# EAGLE library part AP3513E (library maxorig)
AP3513E - DC/DC buck converter Common and easy to implement fixed-frequency, PWM, synchronous buck converter. High efficiency even at low loads, built-in over current, temperature, and voltage protection. Be sure to connect exposed pad to to ground for electrical and thermal reasons. Technical specifications: Input voltage: 4.5-18V Fixed 500kHz switching frequency Integrated N-channel MOSFET Output current: 3A Programmable soft-start
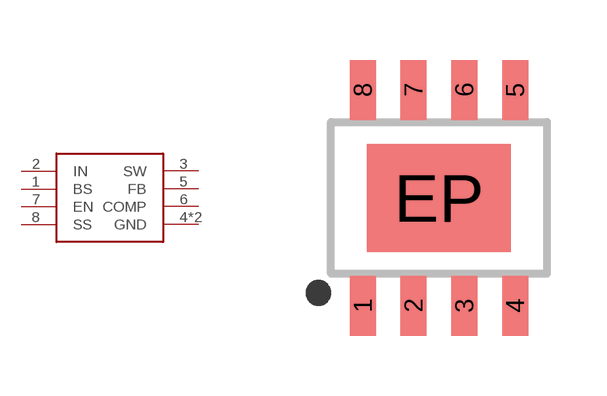
[diagram p31: symbol with the pads of SOIC-08EP; footprint SOIC-08EP]

Designator prefix -

## AP3513E  [SOIC-08EP]
1  BS
2  IN
3  SW
4  GND
5  FB
6  COMP
7  EN
8  SS
EP  GND

## Footprint SOIC-08EP (pad centres in mm)
SOIC, 0.15 inch width
smd 0.65 x 1.5: 1 -1.905,-2.7; 2 -0.635,-2.7; 3 0.635,-2.7; 4 1.905,-2.7; 5 1.905,2.7; 6 0.635,2.7; 7 -0.635,2.7; 8 -1.905,2.7
smd 3.6 x 2.7: EP 0,0